# EAGLE library part MOD_DWM1000 (library evansLibrary)
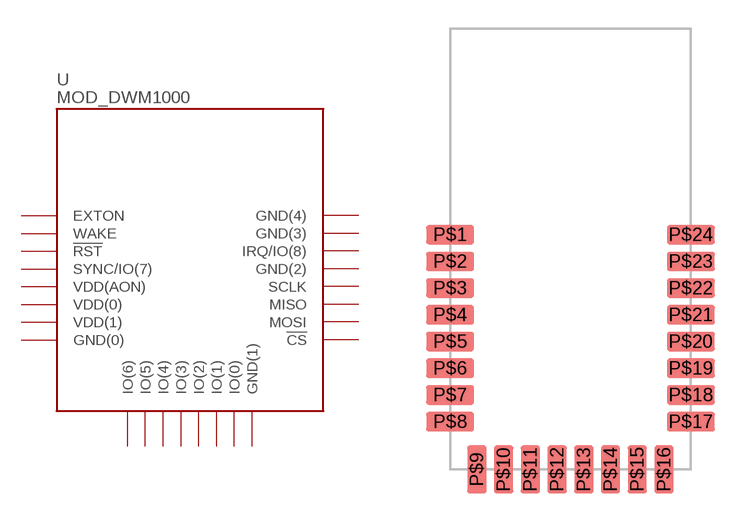
[diagram p0: symbol with the pads of MOD_DWM1000; footprint MOD_DWM1000]

Designator prefix -

## MOD_DWM1000  [MOD_DWM1000]
P$1  EXTON
P$2  WAKE
P$3  !RST
P$4  SYNC/IO(7)
P$5  VDD(AON)
P$6  VDD(0)
P$7  VDD(1)
P$8  GND(0)
P$9  IO(6)
P$10  IO(5)
P$11  IO(4)
P$12  IO(3)
P$13  IO(2)
P$14  IO(1)
P$15  IO(0)
P$16  GND(1)
P$17  !CS
P$18  MOSI
P$19  MISO
P$20  SCLK
P$21  GND(2)
P$22  IRQ/IO(8)
P$23  GND(3)
P$24  GND(4)

## Footprint MOD_DWM1000 (pad centres in mm)
smd 2.5 x 1: P$1 -6.3,12.3; P$2 -6.3,10.9; P$3 -6.3,9.5; P$4 -6.3,8.1; P$5 -6.3,6.7; P$6 -6.3,5.3; P$7 -6.3,3.9; P$8 -6.3,2.5; P$17 6.3,2.5; P$18 6.3,3.9; P$19 6.3,5.3; P$20 6.3,6.7; P$21 6.3,8.1; P$22 6.3,9.5; P$23 6.3,10.9; P$24 6.3,12.3
smd 1 x 2.5: P$9 -4.9,0; P$10 -3.5,0; P$11 -2.1,0; P$12 -0.7,0; P$13 0.7,0; P$14 2.1,0; P$15 3.5,0; P$16 4.9,0